# Altium schematic symbol library 1000uF_10V_Size_F.SchLib: 1 symbol
Pins are listed as number, name and electrical type; pins without a type are passive.

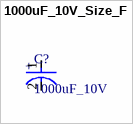
[diagram p0: symbol 1000uF_10V_Size_F]

## 1000uF_10V_Size_F
designator C?, comment 1000uF_10V
footprint 1000uF_10V_Size_F
pins: 1 +, 2 -